# Altium footprint library SP0504BAHTG.PcbLib: 1 footprints
Each footprint in its own frame and in the unit in brackets; x right, y up, seen from the top. Pads: shape width x height; smd on the part's side, far side on the other; paste and mask are expansions set on the pad; w line width, h text height; cw(c..) or ccw(c..) is an arc to the next point about the centre after c.
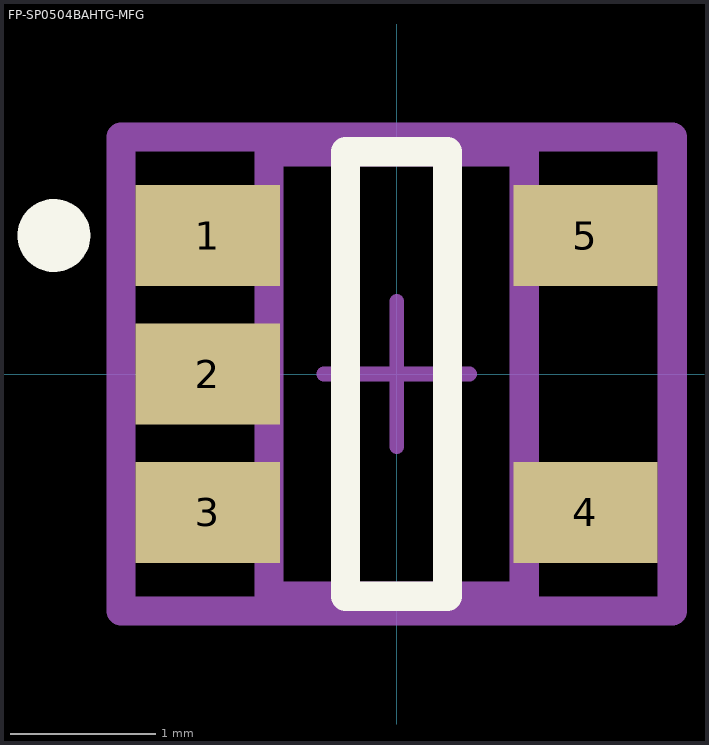
[diagram p0: the footprint, top view; thin cyan lines are the x and y axes]

## FP-SP0504BAHTG-MFG [mm]
pads (5):
  rect 0.99x0.69 smd paste+0 mask+0: 1(-1.295,0.95) 2(-1.295,0) 3(-1.295,-0.95) 4(1.295,-0.95) 5(1.295,0.95)
Top Overlay:
  circle w0.25: c-2.35,0.95 r0.125
  lines w0.2: -0.35,-1.525 0.35,-1.525 0.35,1.525 -0.35,1.525 -0.35,-1.525
Top Assembly:
  lines w0.2: -1.89,-1.625 1.89,-1.625 1.89,1.625 -1.89,1.625 -1.89,-1.625
  text ".Designator" at 0,0.188 h1
Top 3D Body:
  lines w0.2: -0.875,-1.525 0.875,-1.525 0.875,1.525 -0.875,1.525 -0.875,-1.525
Top Courtyard:
  lines w0.2: -1.89,-1.625 1.89,-1.625 1.89,1.625 -1.89,1.625 -1.89,-1.625
Top Component Center:
  lines w0.1: -0.5,0 0.5,0 ; 0,-0.5 0,0.5
3D body "Diode_Littelfuse_SP0504BAHTG_eec.STEP": height 0.25, standoff 0, extent -1.89,-1.625 1.89,1.625